# Altium footprint library BLDC_Motor_Driver.PcbLib: 122 footprints (part 7 of 8)
Each footprint in its own frame and in the unit in brackets; x right, y up, seen from the top. Pads: shape width x height; smd on the part's side, far side on the other; paste and mask are expansions set on the pad; w line width, h text height; cw(c..) or ccw(c..) is an arc to the next point about the centre after c.
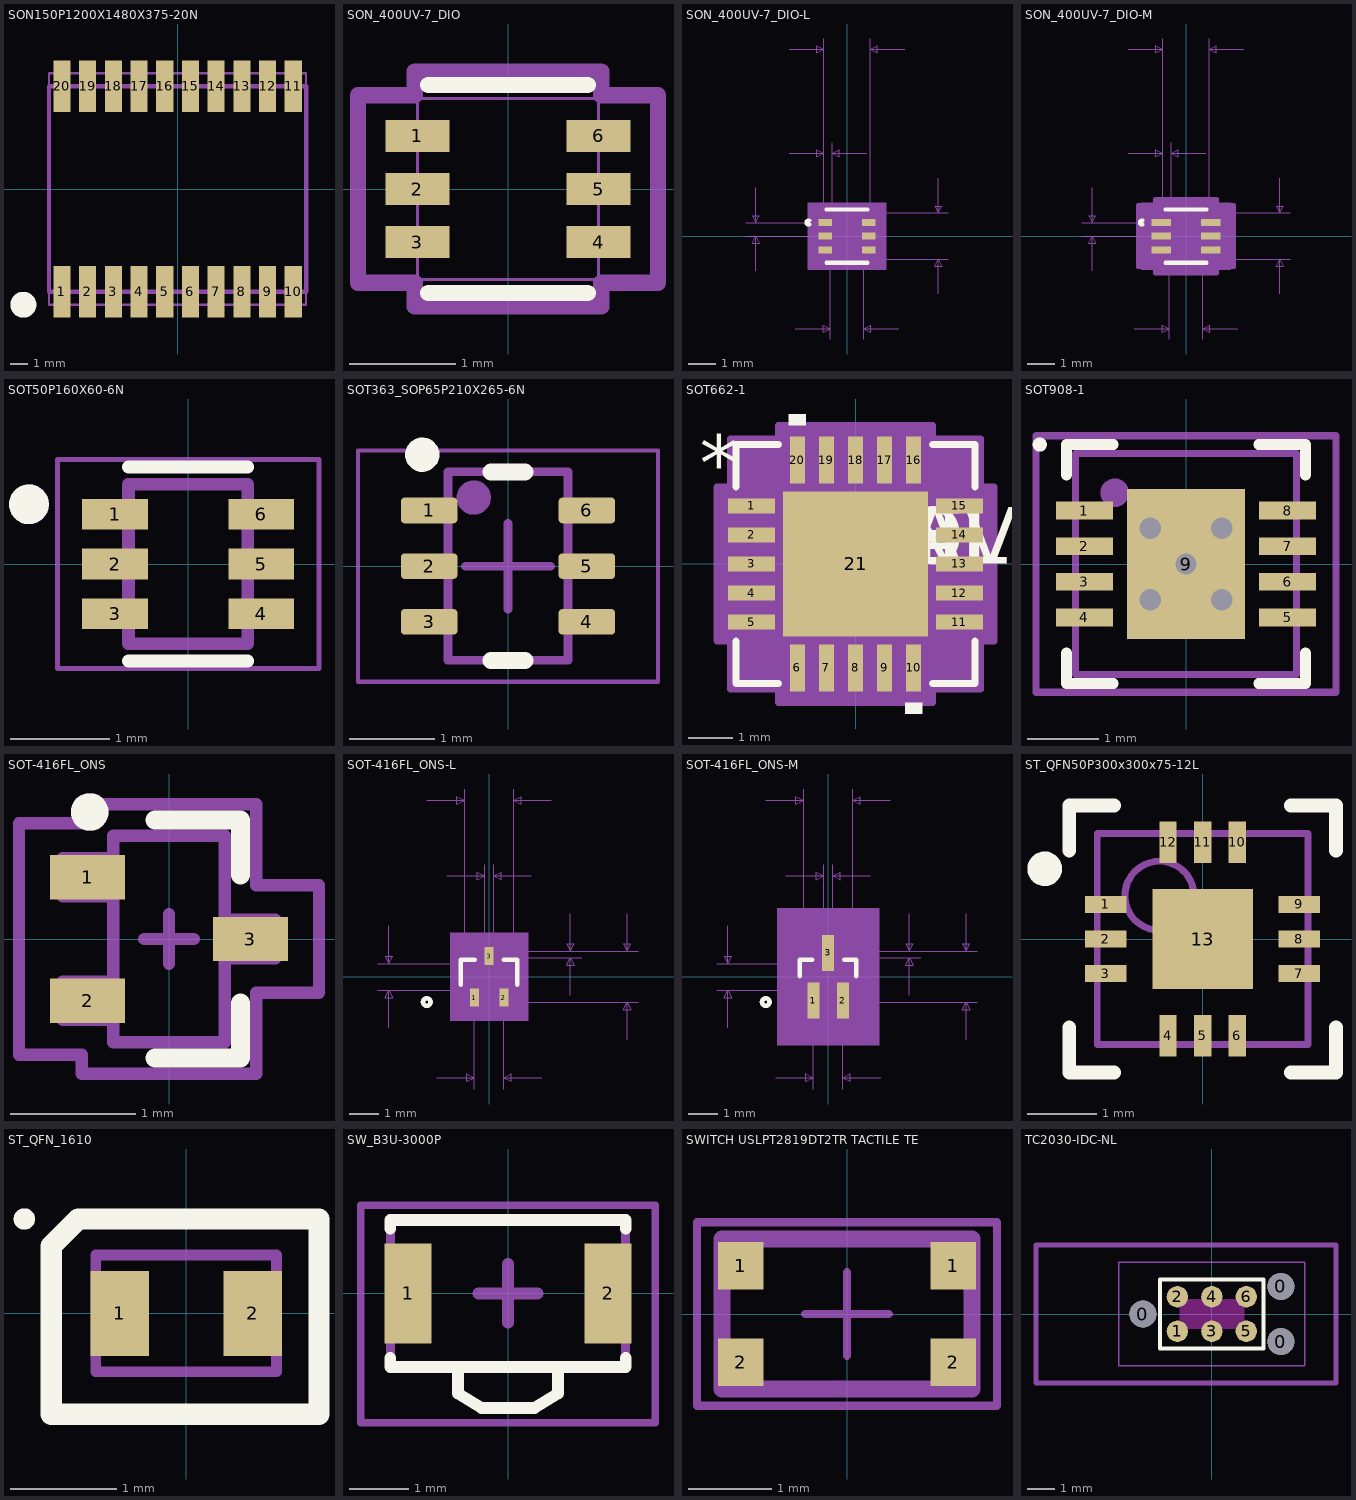
[diagram p6: the footprints below, top view; thin cyan lines are the x and y axes]

## SON150P1200X1480X375-20N [mm]
height 3.75
pads (20):
  rect 1x3 smd: 1(-6.75,-6) 2(-5.25,-6) 3(-3.75,-6) 4(-2.25,-6) 5(-0.75,-6) 6(0.75,-6) 7(2.25,-6) 8(3.75,-6) 9(5.25,-6) 10(6.75,-6) 11(6.75,6) 12(5.25,6) 13(3.75,6) 14(2.25,6) 15(0.75,6) 16(-0.75,6) 17(-2.25,6) 18(-3.75,6) 19(-5.25,6) 20(-6.75,6)
Top Overlay:
  circle w1: c-9,-6.75 r0.254
3D Body TOP:
  lines w0.254: -7.5,-6 7.5,-6 7.5,6 -7.5,6 -7.5,-6
Courtyard TOP:
  lines w0.127: -7.5,-6.75 -7.5,6.75 7.5,6.75 7.5,-6.75 -7.5,-6.75
3D body "ACDX03-41.STEP": height 3.75, standoff -0.05, extent -7.4,-6 7.4,6

## SON_400UV-7_DIO [mm]
pads (6):
  rect 0.6x0.3 smd: 1(-0.851,0.5) 2(-0.851,0) 3(-0.851,-0.5) 4(0.851,-0.5) 5(0.851,0) 6(0.851,0.5)
Top Overlay:
  lines w0.152: -0.749,-0.978 0.749,-0.978 ; -0.749,0.978 0.749,0.978
  text "." at -1.6,0.6 h0.5
3D Body TOP:
  lines w0.025: -0.851,-0.851 0.851,-0.851 0.851,0.851 -0.851,0.851 -0.851,-0.851
Courtyard TOP:
  lines w0.152: -1.41,-0.881 -0.876,-0.881 -0.876,-1.105 0.876,-1.105 0.876,-0.881 1.41,-0.881 1.41,0.881 0.876,0.881 0.876,1.105 -0.876,1.105 -0.876,0.881 -1.41,0.881 -1.41,-0.881
3D body "SON_400UV-7_DIO.step": height 0.61, standoff 0, extent -0.851,-0.851 0.851,0.851

## SON_400UV-7_DIO-L [mil]
pads (6):
  rect 20x10 smd paste+0 mask+0: 1(-31.5,19.68) 2(-31.5,0) 3(-31.5,-19.68) 4(31.5,-19.68) 5(31.5,0) 6(31.5,19.68)
Top Overlay:
  lines w6: -54.6,16.78 cw(c-55.34,19.68) -54.6,22.59 ; -29.5,-38.5 29.5,-38.5 ; -29.5,38.5 29.5,38.5
Mechanical 5:
  region: 56.5,-48.5 -56.5,-48.5 -56.5,48.5 56.5,48.5
Mechanical 7:
  lines w1: -146.5,0 -31.5,0 ; -146.5,19.68 -31.5,19.68 ; -131.5,-50 -131.5,0 ; -131.5,69.69 -131.5,19.68 ; -83.5,119.69 -33.5,119.69 ; -83.5,269.69 -33.5,269.69 ; -74.5,-133.5 -24.5,-133.5 ; -33.5,134.69 -33.5,19.68 -33.5,284.69 ; -24.5,-148.5 -24.5,-33.5 ; -21.5,19.68 -21.5,134.69 ; 24.5,-148.5 24.5,-33.5 146.5,-33.5 ; 24.5,33.5 146.5,33.5 ; 28.5,119.69 -21.5,119.69 ; 33.5,19.68 33.5,284.69 ; 74.5,-133.5 24.5,-133.5 ; 83.5,269.69 33.5,269.69 ; 131.5,-83.5 131.5,-33.5 ; 131.5,83.5 131.5,33.5 ; -131.5,0 -126.5,-10 -136.5,-10 -131.5,0 ; -131.5,19.68 -126.5,29.68 -136.5,29.68 -131.5,19.68 ; -33.5,119.69 -43.5,114.69 -43.5,124.69 -33.5,119.69 ; -33.5,269.69 -43.5,264.69 -43.5,274.69 -33.5,269.69 ; -24.5,-133.5 -34.5,-138.5 -34.5,-128.5 -24.5,-133.5 ; -21.5,119.69 -11.5,114.69 -11.5,124.69 -21.5,119.69 ; 24.5,-133.5 34.5,-138.5 34.5,-128.5 24.5,-133.5 ; 33.5,269.69 43.5,264.69 43.5,274.69 33.5,269.69 ; 131.5,-33.5 136.5,-43.5 126.5,-43.5 131.5,-33.5 ; 131.5,33.5 136.5,43.5 126.5,43.5 131.5,33.5
  text "0.049in/1.245mm" at -93.75,-178.5 h25
  text "0.067in/1.702mm" at 151.5,-12.5 h25
  text "0.02in/0.5mm" at -301.5,-2.66 h25
  text "0.012in/0.305mm" at -121.25,139.69 h25
  text "0.067in/1.702mm" at -93.75,289.69 h25
  text "Alt 2 Padstyle: OX90Y60D30P" at -337.5,-643.5 h50
  text "Alt 1 Padstyle: OX60Y90D30P" at -337.5,-583.5 h50
  text "Default Padstyle: RX20Y10D0T" at -350,-403.5 h50
3D Body TOP:
  circle w6: c-21.5,19.68 r3
  lines w0: -12,33.5 ccw(c0,33.5) 12,33.5
  lines w1: -24.5,-33.5 -24.5,33.5 24.5,33.5 24.5,-33.5 -24.5,-33.5
Courtyard TOP:
  region: -28.5,-28.68 -45.5,-28.68 -45.5,28.68 -28.5,28.68 -28.5,37.5 28.5,37.5 28.5,28.68 45.5,28.68 45.5,-28.68 28.5,-28.68 28.5,-37.5 -28.5,-37.5
  lines w6: -45.5,-28.68 -28.5,-28.68 -28.5,-37.5 28.5,-37.5 28.5,-28.68 45.5,-28.68 45.5,28.68 28.5,28.68 28.5,37.5 -28.5,37.5 -28.5,28.68 -45.5,28.68 -45.5,-28.68
3D body: height 10, standoff 0, extent 0,0 10,10

## SON_400UV-7_DIO-M [mil]
pads (6):
  rect 28x10 smd paste+0 mask+0: 1(-35.5,19.68) 2(-35.5,0) 3(-35.5,-19.68) 4(35.5,-19.68) 5(35.5,0) 6(35.5,19.68)
Top Overlay:
  lines w6: -62.6,16.78 cw(c-63.34,19.68) -62.6,22.59 ; -29.5,-38.5 29.5,-38.5 ; -29.5,38.5 29.5,38.5
Mechanical 5:
  region: 64.5,-48.5 -64.5,-48.5 -64.5,48.5 64.5,48.5
Mechanical 7:
  lines w1: -150.5,0 -35.5,0 ; -150.5,19.68 -35.5,19.68 ; -135.5,-50 -135.5,0 ; -135.5,69.69 -135.5,19.68 ; -83.5,119.69 -33.5,119.69 ; -83.5,269.69 -33.5,269.69 ; -74.5,-133.5 -24.5,-133.5 ; -33.5,134.69 -33.5,19.68 -33.5,284.69 ; -24.5,-148.5 -24.5,-33.5 ; -21.5,19.68 -21.5,134.69 ; 24.5,-148.5 24.5,-33.5 150.5,-33.5 ; 24.5,33.5 150.5,33.5 ; 28.5,119.69 -21.5,119.69 ; 33.5,19.68 33.5,284.69 ; 74.5,-133.5 24.5,-133.5 ; 83.5,269.69 33.5,269.69 ; 135.5,-83.5 135.5,-33.5 ; 135.5,83.5 135.5,33.5 ; -135.5,0 -130.5,-10 -140.5,-10 -135.5,0 ; -135.5,19.68 -130.5,29.68 -140.5,29.68 -135.5,19.68 ; -33.5,119.69 -43.5,114.69 -43.5,124.69 -33.5,119.69 ; -33.5,269.69 -43.5,264.69 -43.5,274.69 -33.5,269.69 ; -24.5,-133.5 -34.5,-138.5 -34.5,-128.5 -24.5,-133.5 ; -21.5,119.69 -11.5,114.69 -11.5,124.69 -21.5,119.69 ; 24.5,-133.5 34.5,-138.5 34.5,-128.5 24.5,-133.5 ; 33.5,269.69 43.5,264.69 43.5,274.69 33.5,269.69 ; 135.5,-33.5 140.5,-43.5 130.5,-43.5 135.5,-33.5 ; 135.5,33.5 140.5,43.5 130.5,43.5 135.5,33.5
  text "0.049in/1.245mm" at -93.75,-178.5 h25
  text "0.067in/1.702mm" at 155.5,-12.5 h25
  text "0.02in/0.5mm" at -305.5,-2.66 h25
  text "0.012in/0.305mm" at -121.25,139.69 h25
  text "0.067in/1.702mm" at -93.75,289.69 h25
  text "Alt 2 Padstyle: OX90Y60D30P" at -337.5,-643.5 h50
  text "Alt 1 Padstyle: OX60Y90D30P" at -337.5,-583.5 h50
  text "Default Padstyle: RX28Y10D0T" at -350,-403.5 h50
3D Body TOP:
  circle w6: c-21.5,19.68 r3
  lines w0: -12,33.5 ccw(c0,33.5) 12,33.5
  lines w1: -24.5,-33.5 -24.5,33.5 24.5,33.5 24.5,-33.5 -24.5,-33.5
Courtyard TOP:
  region: -44.5,-44.69 -69.5,-44.69 -69.5,44.69 -44.5,44.69 -44.5,53.5 44.5,53.5 44.5,44.69 69.5,44.69 69.5,-44.69 44.5,-44.69 44.5,-53.5 -44.5,-53.5
  lines w6: -69.5,-44.69 -44.5,-44.69 -44.5,-53.5 44.5,-53.5 44.5,-44.69 69.5,-44.69 69.5,44.69 44.5,44.69 44.5,53.5 -44.5,53.5 -44.5,44.69 -69.5,44.69 -69.5,-44.69
3D body: height 10, standoff 0, extent 0,0 10,10

## SOT50P160X60-6N [mm]
pads (6):
  rect 0.66x0.31 smd: 1(-0.735,0.5) 2(-0.735,0) 3(-0.735,-0.5) 4(0.735,-0.5) 5(0.735,0) 6(0.735,0.5)
Top Overlay:
  circle w0.2: c-1.6,0.6 r0.1
  lines w0.127: -0.6,-0.975 0.6,-0.975 ; -0.6,0.975 0.6,0.975
3D Body TOP:
  circle w0.2: c-1.6,0.6 r0.1
  lines w0.127: -0.6,-0.8 -0.6,0.8 0.6,0.8 0.6,-0.8 -0.6,-0.8
Courtyard TOP:
  lines w0.05: -1.315,-1.05 -1.315,1.05 1.315,1.05 1.315,-1.05 -1.315,-1.05
3D body "DRL0006A.stp": height 0.6, standoff 0, extent -0.8,-0.8 0.8,0.8

## SOT363_SOP65P210X265-6N [mm] "SOP, 6-Leads, Body 2.00x1.25mm, Pitch 0.65mm, IPC Medium Density"
height 2.65
pads (6):
  rrect30% 0.66x0.3 smd mask+0.05: 1(-0.92,0.65) 2(-0.92,0) 3(-0.92,-0.65) 4(0.92,-0.65) 5(0.92,0) 6(0.92,0.65)
Top Overlay:
  circle w0.2: c-1,1.3 r0.1
  lines w0.2: -0.2,-1.1 0.2,-1.1 ; -0.2,1.1 0.2,1.1
TOP ASSY:
  circle w0.2: c-0.4,0.8 r0.1
  lines w0.1: -0.7,-1.1 0.7,-1.1 0.7,1.1 -0.7,1.1 -0.7,-1.1
Courtyard TOP:
  lines w0.05: -1.75,-1.35 1.75,-1.35 1.75,1.35 -1.75,1.35 -1.75,-1.35
  lines w0.1: -0.5,0 0.5,0 ; 0,-0.5 0,0.5
3D body "SOT-363.STEP": height 1.1, standoff 0, extent -1.1,-1.1 1.1,1.1

## SOT662-1 [mm]
pads (21):
  rect 1.05x0.34 smd paste+0 mask+0.051: 1(-2.325,1.3) 2(-2.325,0.65) 3(-2.325,0) 4(-2.325,-0.65) 5(-2.325,-1.3) 11(2.325,-1.3) 12(2.325,-0.65) 13(2.325,0) 14(2.325,0.65) 15(2.325,1.3)
  rect 0.34x1.05 smd paste+0 mask+0.051: 6(-1.3,-2.325) 7(-0.65,-2.325) 8(0,-2.325) 9(0.65,-2.325) 10(1.3,-2.325) 16(1.3,2.325) 17(0.65,2.325) 18(0,2.325) 19(-0.65,2.325) 20(-1.3,2.325)
  rect 3.24x3.24 smd paste-1.607 mask+0.051: 21(0,0)
Top Overlay:
  region: -1.109,3.104 -1.49,3.104 -1.49,3.358 -1.109,3.358
  region: 1.49,-3.104 1.109,-3.104 1.109,-3.358 1.49,-3.358
  lines w0.152: -2.677,-1.724 -2.677,-2.677 -1.724,-2.677 ; -2.677,1.724 -2.677,2.677 -1.724,2.677 ; 1.724,-2.677 2.677,-2.677 2.677,-1.724 ; 1.724,2.677 2.677,2.677 2.677,1.724
  text "TOL" at 0,0 h1.27
  text "VAL" at 0,0 h1.27
  text "DEV" at 0,0 h1.27
  text "PN" at 0,0 h1.27
  text "*" at -3.485,1.625 h1.27
Top Paste:
  region: 1.52,-0.1 0.1,-0.1 0.1,-1.52 1.52,-1.52
  region: 1.52,1.52 0.1,1.52 0.1,0.1 1.52,0.1
  region: -0.1,-0.1 -1.52,-0.1 -1.52,-1.52 -0.1,-1.52
  region: -0.1,1.52 -1.52,1.52 -1.52,0.1 -0.1,0.1
3D Body TOP:
  text "RefDes2" at 0,0 h1.27
  text "*" at -1.8,1.625 h1.27
Courtyard TOP:
  region: -1.724,-2.804 -2.804,-2.804 -2.804,-1.724 -3.104,-1.724 -3.104,1.724 -2.804,1.724 -2.804,2.804 -1.724,2.804 -1.724,3.104 1.724,3.104 1.724,2.804 2.804,2.804 2.804,1.724 3.104,1.724 3.104,-1.724 2.804,-1.724 2.804,-2.804 1.724,-2.804 1.724,-3.104 -1.724,-3.104
  lines w0.152: -3.104,-1.724 -3.104,1.724 -2.804,1.724 -2.804,2.804 -1.724,2.804 -1.724,3.104 1.724,3.104 1.724,2.804 2.804,2.804 2.804,1.724 3.104,1.724 3.104,-1.724 2.804,-1.724 2.804,-2.804 1.724,-2.804 1.724,-3.104 -1.724,-3.104 -1.724,-2.804 -2.804,-2.804 -2.804,-1.724 -3.104,-1.724
3D body "SOT662-1.stp": height 0.95, standoff 0, extent -2.601,-2.601 2.601,2.601

## SOT908-1 [mm]
pads (9):
  rect 0.8x0.25 smd mask+0.05: 1(-1.425,0.75) 2(-1.425,0.25) 3(-1.425,-0.25) 4(-1.425,-0.75) 5(1.425,-0.75) 6(1.425,-0.25) 7(1.425,0.25) 8(1.425,0.75)
  rect 1.65x2.1 smd mask+0.05: 9(0,0)
via -0.5,-0.5 diameter 0.605 hole 0.3
via 0.5,-0.5 diameter 0.605 hole 0.3
via 0.5,0.5 diameter 0.605 hole 0.3
via -0.5,0.5 diameter 0.605 hole 0.3
via 0,0 diameter 0.605 hole 0.3
Top Overlay:
  circle w0.1: c-2.052,1.676 r0.05
  lines w0.152: -1.676,-1.251 -1.676,-1.676 -1.021,-1.676 ; -1.676,1.251 -1.676,1.676 -1.021,1.676 ; 1.021,-1.676 1.676,-1.676 1.676,-1.251 ; 1.021,1.676 1.676,1.676 1.676,1.251
TOP ASSY:
  circle w0.2: c-1,1 r0.1
  lines w0.1: -1.55,-1.55 -1.55,1.55 1.55,1.55 1.55,-1.55 -1.55,-1.55
  text "'.Designator'" at -0.889,-0.254 h0.5
Courtyard TOP:
  lines w0.1: -0.5,0 0.5,0 ; 0,-0.5 0,0.5 ; -2.105,-1.8 -2.105,1.8 2.105,1.8 2.105,-1.8 -2.105,-1.8
3D body "SON50P300X100_HS-9N.step": height 1, standoff 0, extent -1.551,-1.55 1.551,1.55

## SOT-416FL_ONS [mm]
pads (3):
  rect 0.6x0.356 smd: 1(-0.65,0.495) 2(-0.65,-0.495) 3(0.65,0)
Top Overlay:
  circle w0.2: c-0.635,1.016 r0.05
  lines w0.152: -0.111,-0.953 0.572,-0.953 0.572,-0.511 ; -0.111,0.953 0.572,0.953 0.572,0.511
TOP ASSY:
  circle w0.2: c-0.635,1.016 r0.05
  lines w0.1: -0.851,-0.648 -0.851,-0.343 -0.445,-0.343 -0.445,-0.648 -0.851,-0.648 ; -0.851,0.343 -0.851,0.648 -0.445,0.648 -0.445,0.343 -0.851,0.343 ; -0.445,-0.826 -0.445,0.826 0.445,0.826 0.445,-0.826 -0.445,-0.826 ; 0.445,-0.152 0.445,0.152 0.851,0.152 0.851,-0.152 0.445,-0.152
  text "'.Designator'" at 0.254,-0.762 h0.5
Courtyard TOP:
  lines w0.1: -0.2,0 0.2,0 ; 0,-0.2 0,0.2 ; -1.2,-0.927 -0.699,-0.927 -0.699,-1.079 0.699,-1.079 0.699,-0.432 1.2,-0.432 1.2,0.432 0.699,0.432 0.699,1.079 -0.699,1.079 -0.699,0.927 -1.2,0.927 -1.2,-0.927
3D body "SOT-416FL_ONS.step": height 0.89, standoff 0, extent -0.851,-0.826 0.851,0.826

## SOT-416FL_ONS-L [mil]
pads (3):
  rect 12x24 smd paste+0 mask+0: 1(-19.5,-27.5) 2(19.5,-27.5) 3(0,27.5)
Top Overlay:
  circle w6: c-82.5,-33.5 r5
  lines w6: -37.5,-10.25 -37.5,22.5 -19.1,22.5 ; 19.1,22.5 37.5,22.5 37.5,-10.25
Mechanical 5:
  region: -51.5,58.5 51.5,58.5 51.5,-58.5 -51.5,-58.5
Mechanical 7:
  lines w1: -147.5,-17.5 0,-17.5 ; -147.5,17.5 0,17.5 ; -132.5,-67.5 -132.5,-17.5 ; -132.5,67.5 -132.5,17.5 ; -82.5,233.5 -32.5,233.5 ; -69.5,-133.5 -19.5,-133.5 ; -56,133.5 -6,133.5 ; -32.5,17.5 -32.5,248.5 ; -19.5,-148.5 -19.5,-33.5 ; -6,33.5 -6,148.5 ; 0,-33.5 197.5,-33.5 ; 0,25.5 122.5,25.5 ; 6,33.5 6,148.5 ; 19.5,-148.5 19.5,-33.5 ; 32.5,17.5 32.5,248.5 ; 56,133.5 6,133.5 ; 69.5,-133.5 19.5,-133.5 ; 82.5,233.5 32.5,233.5 ; 107.5,-24.5 107.5,25.5 ; 107.5,83.5 107.5,33.5 ; 122.5,33.5 0,33.5 197.5,33.5 ; 182.5,-83.5 182.5,-33.5 ; 182.5,83.5 182.5,33.5 ; -132.5,-17.5 -127.5,-27.5 -137.5,-27.5 -132.5,-17.5 ; -132.5,17.5 -127.5,27.5 -137.5,27.5 -132.5,17.5 ; -32.5,233.5 -42.5,228.5 -42.5,238.5 -32.5,233.5 ; -19.5,-133.5 -29.5,-138.5 -29.5,-128.5 -19.5,-133.5 ; -6,133.5 -16,128.5 -16,138.5 -6,133.5 ; 6,133.5 16,128.5 16,138.5 6,133.5 ; 19.5,-133.5 29.5,-138.5 29.5,-128.5 19.5,-133.5 ; 32.5,233.5 42.5,228.5 42.5,238.5 32.5,233.5 ; 107.5,25.5 112.5,15.5 102.5,15.5 107.5,25.5 ; 107.5,33.5 112.5,43.5 102.5,43.5 107.5,33.5 ; 182.5,-33.5 187.5,-43.5 177.5,-43.5 182.5,-33.5 ; 182.5,33.5 187.5,43.5 177.5,43.5 182.5,33.5
  text "0.035in/0.889mm" at -340,-12.5 h25
  text "0.065in/1.651mm" at -93.75,253.5 h25
  text "0.012in/0.305mm" at -93.75,153.5 h25
  text "0.039in/0.991mm" at -93.75,-178.5 h25
  text "0.008in/0.203mm" at 127.5,17 h25
  text "0.067in/1.702mm" at 202.5,-12.5 h25
  text "Alt 2 Padstyle: OX90Y60D30P" at -337.5,-514.5 h50
  text "Alt 1 Padstyle: OX60Y90D30P" at -337.5,-439.5 h50
  text "Bottom Padstyle: RX12Y24D0T" at -337.5,-364.5 h50
  text "Top Padstyle: RX12Y24D0T" at -300,-289.5 h50
3D Body TOP:
  circle w0: c-22.5,-7.5 r5
  lines w1: -32.5,-17.5 -32.5,17.5 32.5,17.5 32.5,-17.5 -32.5,-17.5 ; -25.5,-33.5 -13.5,-33.5 -13.5,-17.5 -25.5,-17.5 -25.5,-33.5 ; -6,17.5 -6,33.5 6,33.5 6,17.5 -6,17.5 ; 13.5,-33.5 25.5,-33.5 25.5,-17.5 13.5,-17.5 13.5,-33.5
Courtyard TOP:
  region: 32.5,-17.5 -32.5,-17.5 -32.5,17.5 32.5,17.5
  region: -36.5,-21.5 -36.5,21.5 -10,21.5 -10,43.5 10,43.5 10,21.5 36.5,21.5 36.5,-21.5 29.5,-21.5 29.5,-43.5 -29.5,-43.5 -29.5,-21.5
  lines w6: -36.5,-21.5 -29.5,-21.5 -29.5,-43.5 29.5,-43.5 29.5,-21.5 36.5,-21.5 36.5,21.5 10,21.5 10,43.5 -10,43.5 -10,21.5 -36.5,21.5 -36.5,-21.5
3D body: height 10, standoff 0, extent 0,0 10,10

## SOT-416FL_ONS-M [mil]
pads (3):
  rect 16x48 smd paste+0 mask+0: 1(-19.5,-31.5) 2(19.5,-31.5) 3(0,31.5)
Top Overlay:
  circle w6: c-82.5,-33.5 r5
  lines w6: -37.5,0.96 -37.5,22.5 -21.1,22.5 ; 21.1,22.5 37.5,22.5 37.5,0.96
Mechanical 5:
  region: -67.5,90.5 67.5,90.5 67.5,-90.5 -67.5,-90.5
Mechanical 7:
  lines w1: -147.5,-17.5 0,-17.5 ; -147.5,17.5 0,17.5 ; -132.5,-67.5 -132.5,-17.5 ; -132.5,67.5 -132.5,17.5 ; -82.5,233.5 -32.5,233.5 ; -69.5,-133.5 -19.5,-133.5 ; -56,133.5 -6,133.5 ; -32.5,17.5 -32.5,248.5 ; -19.5,-148.5 -19.5,-33.5 ; -6,33.5 -6,148.5 ; 0,-33.5 197.5,-33.5 ; 0,25.5 122.5,25.5 ; 6,33.5 6,148.5 ; 19.5,-148.5 19.5,-33.5 ; 32.5,17.5 32.5,248.5 ; 56,133.5 6,133.5 ; 69.5,-133.5 19.5,-133.5 ; 82.5,233.5 32.5,233.5 ; 107.5,-24.5 107.5,25.5 ; 107.5,83.5 107.5,33.5 ; 122.5,33.5 0,33.5 197.5,33.5 ; 182.5,-83.5 182.5,-33.5 ; 182.5,83.5 182.5,33.5 ; -132.5,-17.5 -127.5,-27.5 -137.5,-27.5 -132.5,-17.5 ; -132.5,17.5 -127.5,27.5 -137.5,27.5 -132.5,17.5 ; -32.5,233.5 -42.5,228.5 -42.5,238.5 -32.5,233.5 ; -19.5,-133.5 -29.5,-138.5 -29.5,-128.5 -19.5,-133.5 ; -6,133.5 -16,128.5 -16,138.5 -6,133.5 ; 6,133.5 16,128.5 16,138.5 6,133.5 ; 19.5,-133.5 29.5,-138.5 29.5,-128.5 19.5,-133.5 ; 32.5,233.5 42.5,228.5 42.5,238.5 32.5,233.5 ; 107.5,25.5 112.5,15.5 102.5,15.5 107.5,25.5 ; 107.5,33.5 112.5,43.5 102.5,43.5 107.5,33.5 ; 182.5,-33.5 187.5,-43.5 177.5,-43.5 182.5,-33.5 ; 182.5,33.5 187.5,43.5 177.5,43.5 182.5,33.5
  text "0.035in/0.889mm" at -340,-12.5 h25
  text "0.065in/1.651mm" at -93.75,253.5 h25
  text "0.012in/0.305mm" at -93.75,153.5 h25
  text "0.039in/0.991mm" at -93.75,-178.5 h25
  text "0.008in/0.203mm" at 127.5,17 h25
  text "0.067in/1.702mm" at 202.5,-12.5 h25
  text "Alt 2 Padstyle: OX90Y60D30P" at -337.5,-530.5 h50
  text "Alt 1 Padstyle: OX60Y90D30P" at -337.5,-455.5 h50
  text "Bottom Padstyle: RX16Y48D0T" at -337.5,-380.5 h50
  text "Top Padstyle: RX16Y48D0T" at -300,-305.5 h50
3D Body TOP:
  circle w0: c-22.5,-7.5 r5
  lines w1: -32.5,-17.5 -32.5,17.5 32.5,17.5 32.5,-17.5 -32.5,-17.5 ; -25.5,-33.5 -13.5,-33.5 -13.5,-17.5 -25.5,-17.5 -25.5,-33.5 ; -6,17.5 -6,33.5 6,33.5 6,17.5 -6,17.5 ; 13.5,-33.5 25.5,-33.5 25.5,-17.5 13.5,-17.5 13.5,-33.5
Courtyard TOP:
  region: 32.5,-17.5 -32.5,-17.5 -32.5,17.5 32.5,17.5
  region: -52.5,-37.5 -52.5,37.5 -28,37.5 -28,75.5 28,75.5 28,37.5 52.5,37.5 52.5,-37.5 47.5,-37.5 47.5,-75.5 -47.5,-75.5 -47.5,-37.5
  lines w6: -52.5,-37.5 -47.5,-37.5 -47.5,-75.5 47.5,-75.5 47.5,-37.5 52.5,-37.5 52.5,37.5 28,37.5 28,75.5 -28,75.5 -28,37.5 -52.5,37.5 -52.5,-37.5
3D body: height 10, standoff 0, extent 0,0 10,10

## ST_QFN50P300x300x75-12L [mm]
height 1
pads (13):
  rect 0.6x0.25 smd: 1(-1.4,0.5) 2(-1.4,0) 3(-1.4,-0.5) 7(1.4,-0.5) 8(1.4,0) 9(1.4,0.5)
  rect 0.25x0.6 smd: 4(-0.5,-1.4) 5(0,-1.4) 6(0.5,-1.4) 10(0.5,1.4) 11(0,1.4) 12(-0.5,1.4)
  rect 1.45x1.45 smd: 13(0,0)
Top Overlay:
  circle w0.25: c-2.286,1.016 r0.125
  lines w0.2: -1.929,-1.279 -1.929,-1.929 -1.279,-1.929 ; -1.929,1.279 -1.929,1.929 -1.279,1.929 ; 1.279,-1.929 1.929,-1.929 1.929,-1.279 ; 1.279,1.929 1.929,1.929 1.929,1.279
3D Body TOP:
  circle w0.1: c-0.625,0.625 r0.5
  lines w0.1: -1.525,-1.525 -1.525,1.525 1.525,1.525 1.525,-1.525 -1.525,-1.525
3D body "ST_QFN50P300x300x75-12L.step": height 1, standoff 0, extent -1.526,-1.526 1.526,1.526

## ST_QFN_1610 [mm] "2-UDFN"
height 0.6
pads (2):
  rect 0.55x0.8 smd: 1(-0.625,0) 2(0.625,0)
Top Overlay:
  circle w0.1: c-1.524,0.889 r0.05
  lines w0.2: -1.27,-0.95 1.25,-0.95 1.25,0.889 -1.016,0.889 -1.27,0.635 -1.27,-0.95
3D Body TOP:
  lines w0.1: -0.85,-0.55 0.85,-0.55 0.85,0.55 -0.85,0.55 -0.85,-0.55
3D body "ST_1610.step": height 0.6, standoff 0, extent -0.85,-0.55 0.85,0.55

## SW_B3U-3000P [mm]
pads (2):
  rect 0.8x1.7 smd: 1(-1.7,0) 2(1.7,0)
Top Overlay:
  lines w0.2: -2,-1.1 -2,-1.25 -0.85,-1.25 ; -2,1.1 -2,1.25 2,1.25 2,1.1 ; 2,-1.1 2,-1.25 0.85,-1.25 ; -0.85,-1.25 -0.85,-1.7 -0.45,-1.95 0.45,-1.95 0.85,-1.7 0.85,-1.25 ; -0.85,-1.25 0.85,-1.25
TOP ASSY:
  lines w0.152: -0.85,-1.25 -2,-1.25 -2,1.25 2,1.25 2,-1.25 0.85,-1.25 ; -0.85,-1.25 0.85,-1.25 ; -0.85,-1.25 -0.85,-1.7 -0.45,-1.95 0.45,-1.95 0.85,-1.7 0.85,-1.25
  text "'.Designator'" at -1,0 h0.5
Courtyard TOP:
  lines w0.127: -2.5,-2.2 2.5,-2.2 2.5,1.5 -2.5,1.5 -2.5,-2.2
  lines w0.2: -0.5,0 0.5,0 ; 0,-0.5 0,0.5
3D body "B3U-3000P.STEP": height 1.2, standoff -0.5, extent -2,-1.95 2,1.25

## SWITCH USLPT2819DT2TR TACTILE TE [mm] "Tactile Switch SPST-NO Top Actuated Surface Mount"
height 0.6
pads (4):
  rect 0.55x0.57 smd: 1(-1.275,0.58) 1(1.275,0.58) 2(-1.275,-0.58) 2(1.275,-0.58)
TOP ASSY:
  lines w0.2: -1.5,-0.9 -1.5,0.9 1.5,0.9 1.5,-0.9 -1.5,-0.9
  text "'.Designator'" at -0.7,-0.2 h0.5
Courtyard TOP:
  lines w0.1: -0.5,0 0.5,0 ; 0,-0.5 0,0.5 ; -1.8,-1.1 1.8,-1.1 1.8,1.1 -1.8,1.1 -1.8,-1.1
3D body "c-2337225-1-a-3d.stp": height 0.6, standoff 0, extent -1.5,-0.95 1.5,0.95

## TC2030-IDC-NL [mil] "Tag-Connect 6-Pin with No Legs (PN# TC2030-IDC-NL)"
pads (9):
  round 39 hole 39 unplated paste-20: 0(-100,0) 0(100,-40) 0(100,40)
  round 31 smd paste-16: 1(-50,-25) 2(-50,25) 3(0,-25) 4(0,25) 5(50,-25) 6(50,25)
Top Layer keep-out:
  rectangle: -47,-22 47,22
Top Overlay:
  lines w5.98: -75,-50 -75,50 75,50 75,-50 -75,-50
Courtyard TOP:
  lines w2: -135,-75 -135,75 135,75 135,-75 -135,-75
Courtyard BOT:
  lines w7.87: -255,-100 -255,100 180,100 180,-100 -255,-100